# Altium integrated library 296-29506-5-ND.IntLib: 1 symbol
Pins are listed as number, name and electrical type; pins without a type are passive.

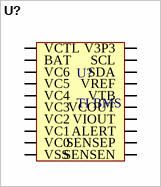
[diagram p0: symbol U?]

## U?
designator U?, comment TI BMS
footprint TSOP65P640X120-20N (TSOP, 20-Leads, Body 6.40x4.40mm, Pitch 0.65mm, IPC Medium Density)
pins: ALERT, BAT, SCL, SDA, SENSEN, SENSEP, V3P3, VC0, VC1, VC2, VC3, VC4, VC5, VC6, VCOUT, VCTL, VIOUT, VREF, VSS, VTB